# Altium schematic symbol library FiducialPoint.SchLib: 1 symbol
Pins are listed as number, name and electrical type; pins without a type are passive.

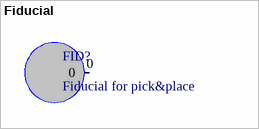
[diagram p0: symbol Fiducial]

## Fiducial
designator FID?, comment Fiducial for pick&place
footprint FiducialPoint (FiducialPoint 1mm)
pins: 0